# Altium footprint library DIOAD3070W130L950D530.PcbLib: 1 footprints
Each footprint in its own frame and in the unit in brackets; x right, y up, seen from the top. Pads: shape width x height; smd on the part's side, far side on the other; paste and mask are expansions set on the pad; w line width, h text height; cw(c..) or ccw(c..) is an arc to the next point about the centre after c.
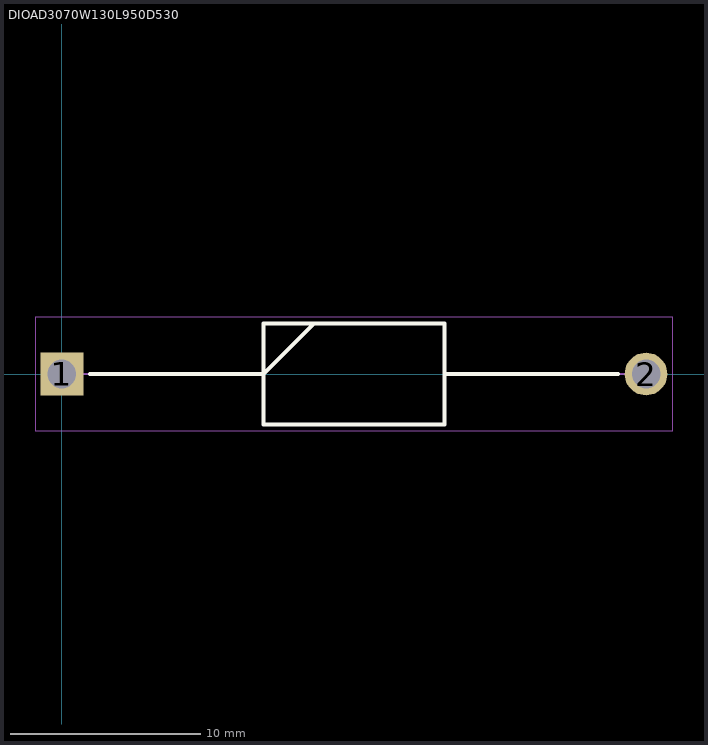
[diagram p0: the footprint, top view; thin cyan lines are the x and y axes]

## DIOAD3070W130L950D530 [mm]
pads (2):
  rect 2.25x2.25 / inner round 2.25 / far side rect 2.25x2.25 hole 1.5: 1(0,0)
  round 2.25 hole 1.5: 2(30.7,0)
Top Overlay:
  lines w0.2: 1.475,0 10.6,0 13.25,2.65 ; 20.1,0 29.225,0 ; 10.6,-2.65 20.1,-2.65 20.1,2.65 10.6,2.65 10.6,-2.65
Mechanical 15:
  lines w0.1: 0,0 10.6,0 13.25,2.65 ; 20.1,0 30.7,0 ; 10.6,-2.65 20.1,-2.65 20.1,2.65 10.6,2.65 10.6,-2.65
Mechanical 20:
  lines w0.05: -1.375,-3 32.075,-3 32.075,3 -1.375,3 -1.375,-3